# Altium schematic symbol library Projekat.SchLib: 38 symbols
Pins are listed as number, name and electrical type; pins without a type are passive.

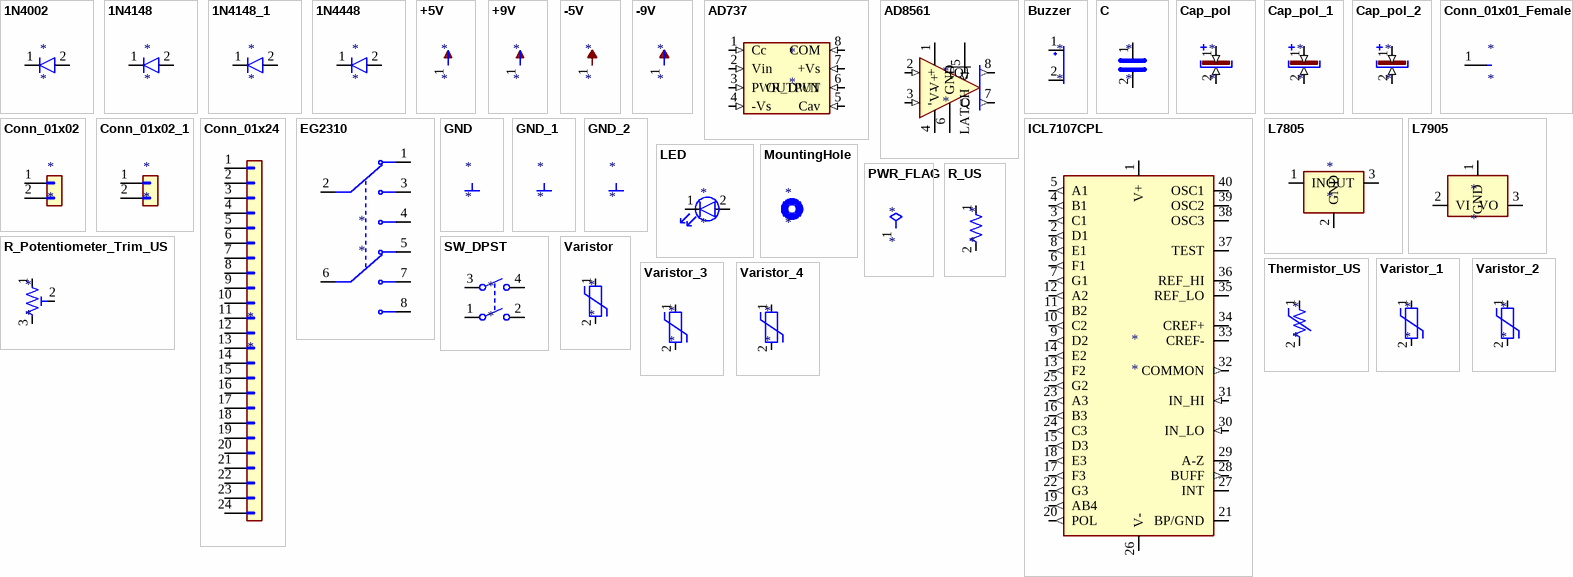
[diagram p0: symbols 1N4002 to Varistor_4]

## 1N4002
designator *
pins: 1 K, 2 A

## 1N4148
designator *
pins: 1 K, 2 A

## 1N4148_1
designator *
pins: 1 K, 2 A

## 1N4448
designator *
pins: 1 K, 2 A

## +5V
designator *
pins: 1 +5V (power)

## +9V
designator *
pins: 1 +9V (power)

## -5V
designator *
pins: 1 -5V (power)

## -9V
designator *
pins: 1 -9V (power)

## AD737
designator *
pins: 1 Cc (in), 2 Vin (in), 3 PWR_DWN (in), 4 -Vs (in), 5 Cav (in), 6 OUTPUT (in), 7 +Vs (in), 8 COM (in)

## AD8561
designator *
pins: 1 V+ (power), 2 + (in), 3 - (in), 4 V- (power), 5 LATCH (in), 6 GND (power), 7 Q (out), 8 ~{{Q}} (out)

## Buzzer
designator *
pins: 1 -, 2 +

## C
designator *
pins: 1, 2

## Cap_pol
designator *
pins: 1 (in), 2 (in)

## Cap_pol_1
designator *
pins: 1 (in), 2 (in)

## Cap_pol_2
designator *
pins: 1 (in), 2 (in)

## Conn_01x01_Female
designator *
pins: 1 Pin_1

## Conn_01x02
designator *
pins: 1 Pin_1, 2

## Conn_01x02_1
designator *
pins: 1 Pin_1, 2 Pin_2

## Conn_01x24
designator *
pins: 1 Pin_1, 2 Pin_2, 3 Pin_3, 4 Pin_4, 5 Pin_5, 6 Pin_6, 7 Pin_7, 8 Pin_8, 9 Pin_9, 10 Pin_10, 11 Pin_11, 12 Pin_12, 13 Pin_13, 14 Pin_14, 15 Pin_15, 16 Pin_16, 17 Pin_17, 18 Pin_18, 19 Pin_19, 20 Pin_20, 21 Pin_21, 22 Pin_22, 23 Pin_23, 24 Pin_24

## EG2310
designator *
pins: 1, 2, 3, 4, 5, 6, 7, 8

## GND
designator *
pins: 1 GND (power) hidden

## GND_1
designator *
pins: 1 GND (power) hidden

## GND_2
designator *
pins: 1 GND (power) hidden

## ICL7107CPL
designator *
pins: 1 V+ (power), 2 D1 (out), 3 C1 (out), 4 B1 (out), 5 A1 (out), 6 F1 (out), 7 G1 (out), 8 E1 (out), 9 D2 (out), 10 C2 (out), 11 B2 (out), 12 A2 (out), 13 F2 (out), 14 E2 (out), 15 D3 (out), 16 B3 (out), 17 F3 (out), 18 E3 (out), 19 AB4 (out), 20 POL (out), 21 BP/GND (io), 22 G3 (out), 23 A3 (out), 24 C3 (out), 25 G2 (out), 26 V- (power), 27 INT, 28 BUFF (out), 29 A-Z, 30 IN_LO (in), 31 IN_HI (in), 32 COMMON (out), 33 CREF-, 34 CREF+, 35 REF_LO, 36 REF_HI, 37 TEST, 38 OSC3, 39 OSC2, 40 OSC1

## L7805
designator *
pins: 1 IN (power), 2 GND (power), 3 OUT (power)

## L7905
designator *
pins: 1 GND (power), 2 VI (power), 3 VO (power)

## LED
designator *
pins: 1 K, 2 A

## MountingHole
designator *

## PWR_FLAG
designator *  (graphical)
pins: 1 pwr (power)

## R_Potentiometer_Trim_US
designator *
pins: 1, 2, 3

## R_US
designator *
pins: 1, 2

## SW_DPST
designator *
pins: 1, 2, 3, 4

## Thermistor_US
designator *
pins: 1, 2

## Varistor
designator *
pins: 1, 2

## Varistor_1
designator *
pins: 1, 2

## Varistor_2
designator *
pins: 1, 2

## Varistor_3
designator *
pins: 1, 2

## Varistor_4
designator *
pins: 1, 2